# Altium schematic symbol library BTS5235-2L.SchLib: 1 symbol
Pins are listed as number, name and electrical type; pins without a type are passive.

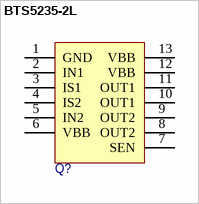
[diagram p0: symbol BTS5235-2L]

## BTS5235-2L
designator Q?
pins: 1 GND, 2 IN1, 3 IS1, 4 IS2, 5 IN2, 6 VBB, 7 SEN, 8 OUT2, 9 OUT2, 10 OUT1, 11 OUT1, 12 VBB, 13 VBB